# Altium footprint library Magnetics$.PcbLib: 44 footprints (part 1 of 3)
Each footprint in its own frame and in the unit in brackets; x right, y up, seen from the top. Pads: shape width x height; smd on the part's side, far side on the other; paste and mask are expansions set on the pad; w line width, h text height; cw(c..) or ccw(c..) is an arc to the next point about the centre after c.
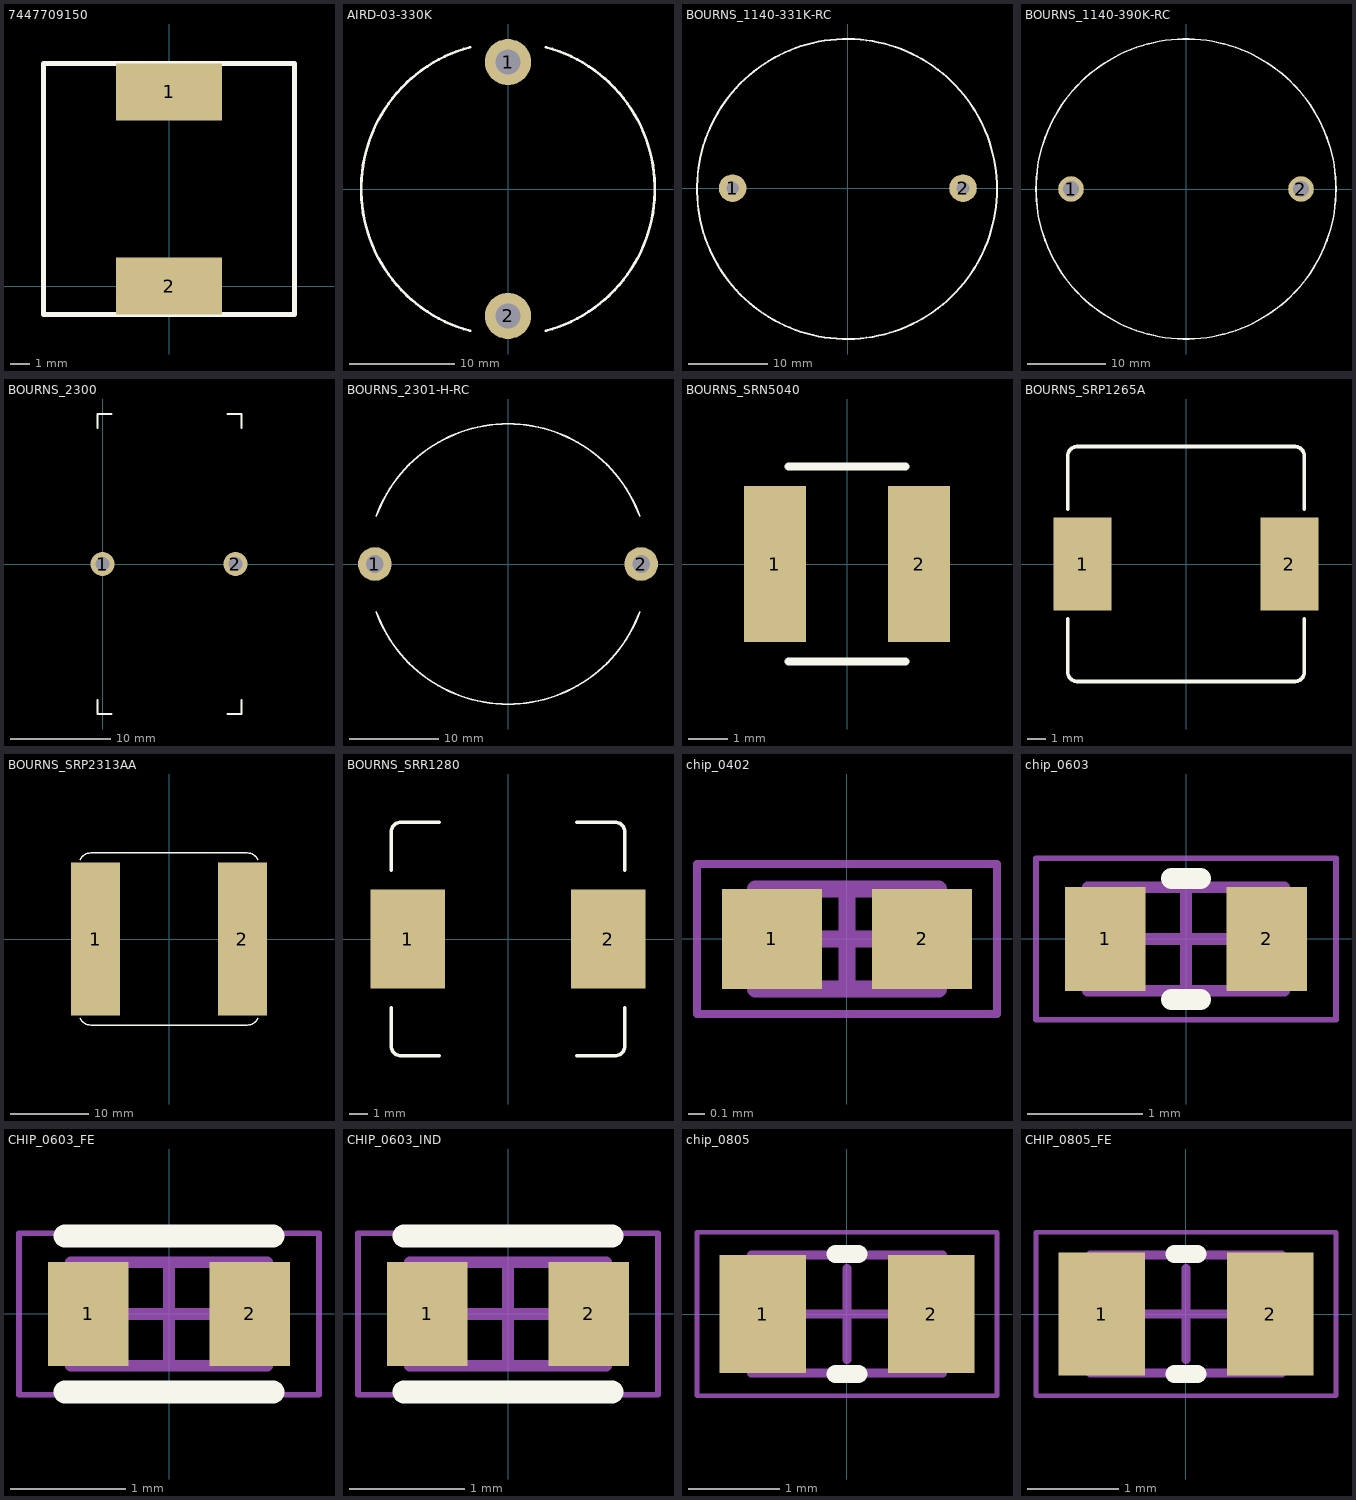
[diagram p0: the footprints below, top view; thin cyan lines are the x and y axes]

## 7447709150 [mm] "Fixed Inductor 7447709150"
pads (2):
  rect 5.4x2.9 smd: 1(0,9.9) 2(0,0)
Top Overlay:
  lines w0.254: -6.4,-1.45 6.4,-1.45 6.4,11.35 -6.4,11.35 -6.4,-1.45

## AIRD-03-330K [mm] "24mm leaded inductor"
pads (2):
  round 4.4 hole 2.4: 1(0,12.1) 2(0,-12.1)
Top Overlay:
  lines w0.254: -3.623,-13.523 cw(c0,0) -3.623,13.523 ; 3.623,-13.523 ccw(c0,0) 3.623,13.523
3D body: height 21, standoff 0, extent -14,-13.996 14,13.996

## BOURNS_1140-331K-RC [mm]
pads (2):
  round 3.5 hole 1.6 mask+0.05: 1(-14.6,0) 2(14.6,0)
Top Overlay:
  circle w0.25: c-0.1,-0.1 r19.007
3D body "1140-331k-rc.stp": height 26.28, standoff -12.58, extent -19.05,-19.05 19.05,19.05

## BOURNS_1140-390K-RC [mm]
pads (2):
  round 3.25 hole 2 unplated: 1(-14.6,0) 2(14.6,0)
Top Overlay:
  circle w0.2: c0,0 r19.05
3D body "BOURNS_1140-390K-RC.stp": height 26.16, standoff -12.71, extent -19.05,-19.05 19.05,19.05

## BOURNS_2300 [mm] "Bourns 2300 series inductors"
pads (2):
  round 2.4 hole 1.4: 1(0,0) 2(13.208,0)
Top Overlay:
  lines w0.2: -0.5,-13.5 -0.5,-14.9 0.9,-14.9 ; -0.5,13.5 -0.5,14.9 0.9,14.9 ; 12.4,-14.9 13.8,-14.9 13.8,-13.5 ; 12.4,14.9 13.8,14.9 13.8,13.5
3D body "2312-v-rc.stp": height 29.88, standoff -12.58, extent -0.5,-14.884 13.775,14.884

## BOURNS_2301-H-RC [mm]
pads (2):
  round 3.8 hole 2: 1(-15,0) 2(15,0)
Top Overlay:
  lines w0.2: -14.843,-5.402 ccw(c0,0) 14.843,-5.402 ; -14.843,5.402 cw(c0,0) 14.843,5.402
3D body "BOURNS_2301-H-RC.stp": height 15.9, standoff -12.7, extent -15.774,-15.824 15.874,15.824

## BOURNS_SRN5040 [mm] "Bourns SRN5040 series inductors"
pads (2):
  rect 1.6x4 smd: 1(-1.85,0) 2(1.85,0)
Top Overlay:
  lines w0.2: -1.5,-2.5 1.5,-2.5 ; -1.5,2.5 1.5,2.5
3D body "BOURNS_SRN5040.stp": height 3.5, standoff 0.06, extent -2.501,-2.52 2.501,2.5

## BOURNS_SRP1265A [mm] "Bourns SRP1265A series"
pads (2):
  rect 3.1x5 smd: 1(-5.55,0) 2(5.55,0)
Top Overlay:
  lines w0.2: -6.35,-2.95 -6.35,-5.8 ccw(c-5.85,-5.8) -5.85,-6.3 5.85,-6.3 ccw(c5.85,-5.8) 6.35,-5.8 6.35,-2.95 ; -6.35,2.95 -6.35,5.8 cw(c-5.85,5.8) -5.85,6.3 5.85,6.3 cw(c5.85,5.8) 6.35,5.8 6.35,2.95
3D body "Bourns_SRP1265A_series.stp": height 6.31, standoff 0, extent -6.45,-6.25 6.45,6.25

## BOURNS_SRP2313AA [mm] "Bourns SRP2313AA series inductor footprint"
pads (2):
  rect 6.25x19.6 smd: 1(-9.375,0) 2(9.375,0)
Top Overlay:
  lines w0.2: -11.359,-10.134 ccw(c-10,-9.5) -10,-11 10,-11 ccw(c10,-9.5) 11.359,-10.134 ; -11.359,10.134 cw(c-10,9.5) -10,11 10,11 cw(c10,9.5) 11.359,10.134
3D body: height 12.6, standoff 0, extent -11.5,-11 11.5,11

## BOURNS_SRR1280 [mm] "Bourns SRR1280 series"
pads (2):
  rect 4.05x5.4 smd: 1(-5.45,0) 2(5.45,0)
Top Overlay:
  lines w0.2: -6.35,-3.75 -6.35,-5.8 ccw(c-5.8,-5.8) -5.8,-6.35 -3.75,-6.35 ; -6.35,3.75 -6.35,5.8 cw(c-5.8,5.8) -5.8,6.35 -3.75,6.35 ; 3.75,-6.35 5.8,-6.35 ccw(c5.8,-5.8) 6.35,-5.8 6.35,-3.75 ; 3.75,6.35 5.8,6.35 cw(c5.8,5.8) 6.35,5.8 6.35,3.75
3D body "srr1208.stp": height 8.25, standoff -0.25, extent -6.35,-6.35 6.35,6.35

## chip_0402 [mm]
height 0.6
pads (2):
  rect 0.6x0.6 smd: 1(-0.45,0) 2(0.45,0)
Mechanical 13:
  lines w0.1: -0.55,-0.3 0.55,-0.3 0.55,0.3 -0.55,0.3 -0.55,-0.3
Mechanical 15:
  lines w0.05: -0.9,-0.45 0.9,-0.45 0.9,0.45 -0.9,0.45 -0.9,-0.45
  lines w0.1: -0.3,0 0.3,0 ; 0,-0.3 0,0.3
3D body: height 0.6, standoff 0, extent 0.3,-0.3 0.55,0.3
3D body: height 0.6, standoff 0, extent -0.55,-0.3 -0.3,0.3
3D body: height 0.6, standoff 0, extent -0.3,-0.3 0.3,0.3

## chip_0603 [mm]
height 0.6
pads (2):
  rect 0.7x0.9 smd: 1(-0.7,0) 2(0.7,0)
Top Overlay:
  lines w0.18: -0.125,-0.525 0.125,-0.525 ; -0.125,0.525 0.125,0.525
Mechanical 13:
  lines w0.1: -0.85,-0.45 -0.85,0.45 0.85,0.45 0.85,-0.45 -0.85,-0.45
Mechanical 15:
  lines w0.05: -1.3,-0.7 -1.3,0.7 1.3,0.7 1.3,-0.7 -1.3,-0.7
  lines w0.1: -0.45,0 0.45,0 ; 0,-0.45 0,0.45
3D body: height 0.6, standoff 0, extent -0.55,-0.45 0.55,0.45
3D body: height 0.6, standoff 0, extent -0.85,-0.45 -0.55,0.45
3D body: height 0.6, standoff 0, extent 0.55,-0.45 0.85,0.45

## CHIP_0603_FE [mm]
height 0.6
pads (2):
  rect 0.7x0.9 smd: 1(-0.7,0) 2(0.7,0)
Top Overlay:
  lines w0.2: -0.9,-0.675 0.9,-0.675 ; -0.9,0.675 0.9,0.675
Mechanical 13:
  lines w0.1: -0.85,-0.45 -0.85,0.45 0.85,0.45 0.85,-0.45 -0.85,-0.45
Mechanical 15:
  lines w0.05: -1.3,-0.7 -1.3,0.7 1.3,0.7 1.3,-0.7 -1.3,-0.7
  lines w0.1: -0.45,0 0.45,0 ; 0,-0.45 0,0.45
3D body: height 0.9, standoff 0, extent -0.55,-0.425 0.55,0.425
3D body: height 0.92, standoff 0, extent -0.85,-0.45 -0.55,0.45
3D body: height 0.92, standoff 0, extent 0.55,-0.45 0.85,0.45

## CHIP_0603_IND [mm]
height 0.6
pads (2):
  rect 0.7x0.9 smd: 1(-0.7,0) 2(0.7,0)
Top Overlay:
  lines w0.2: -0.9,-0.675 0.9,-0.675 ; -0.9,0.675 0.9,0.675
Mechanical 13:
  lines w0.1: -0.85,-0.45 -0.85,0.45 0.85,0.45 0.85,-0.45 -0.85,-0.45
Mechanical 15:
  lines w0.05: -1.3,-0.7 -1.3,0.7 1.3,0.7 1.3,-0.7 -1.3,-0.7
  lines w0.1: -0.45,0 0.45,0 ; 0,-0.45 0,0.45
3D body: height 0.9, standoff 0, extent -0.55,-0.425 0.55,0.425
3D body: height 0.92, standoff 0, extent -0.85,-0.45 -0.55,0.45
3D body: height 0.92, standoff 0, extent 0.55,-0.45 0.85,0.45

## chip_0805 [mm]
height 0.6
pads (2):
  rect 0.95x1.3 smd: 1(-0.925,0) 2(0.925,0)
Top Overlay:
  lines w0.2: -0.127,-0.66 0.127,-0.66 ; -0.127,0.66 0.127,0.66
Mechanical 13:
  lines w0.1: -1.05,-0.65 1.05,-0.65 1.05,0.65 -1.05,0.65 -1.05,-0.65
Mechanical 15:
  lines w0.05: -1.65,-0.9 1.65,-0.9 1.65,0.9 -1.65,0.9 -1.65,-0.9
  lines w0.1: -0.5,0 0.5,0 ; 0,-0.5 0,0.5
3D body: height 0.6, standoff 0, extent 0.6,-0.65 1.05,0.65
3D body: height 0.6, standoff 0, extent -1.05,-0.65 -0.6,0.65
3D body: height 0.6, standoff 0, extent -0.6,-0.65 0.6,0.65

## CHIP_0805_FE [mm] "0805 Ferrite Bead"
height 0.6
pads (2):
  rect 0.95x1.35 smd: 1(-0.925,0) 2(0.925,0)
Top Overlay:
  lines w0.2: -0.127,-0.66 0.127,-0.66 ; -0.127,0.66 0.127,0.66
Mechanical 13:
  lines w0.1: -1.05,-0.65 1.05,-0.65 1.05,0.65 -1.05,0.65 -1.05,-0.65
Mechanical 15:
  lines w0.05: -1.65,-0.9 1.65,-0.9 1.65,0.9 -1.65,0.9 -1.65,-0.9
  lines w0.1: -0.5,0 0.5,0 ; 0,-0.5 0,0.5
3D body: height 1.17, standoff 0, extent 0.6,-0.65 1.05,0.65
3D body: height 1.17, standoff 0, extent -1.05,-0.65 -0.6,0.65
3D body: height 1.15, standoff 0.03, extent -0.6,-0.65 0.6,0.65